# Altium footprint library Wristband-v3.PcbLib: 13 footprints
Each footprint in its own frame and in the unit in brackets; x right, y up, seen from the top. Pads: shape width x height; smd on the part's side, far side on the other; paste and mask are expansions set on the pad; w line width, h text height; cw(c..) or ccw(c..) is an arc to the next point about the centre after c.
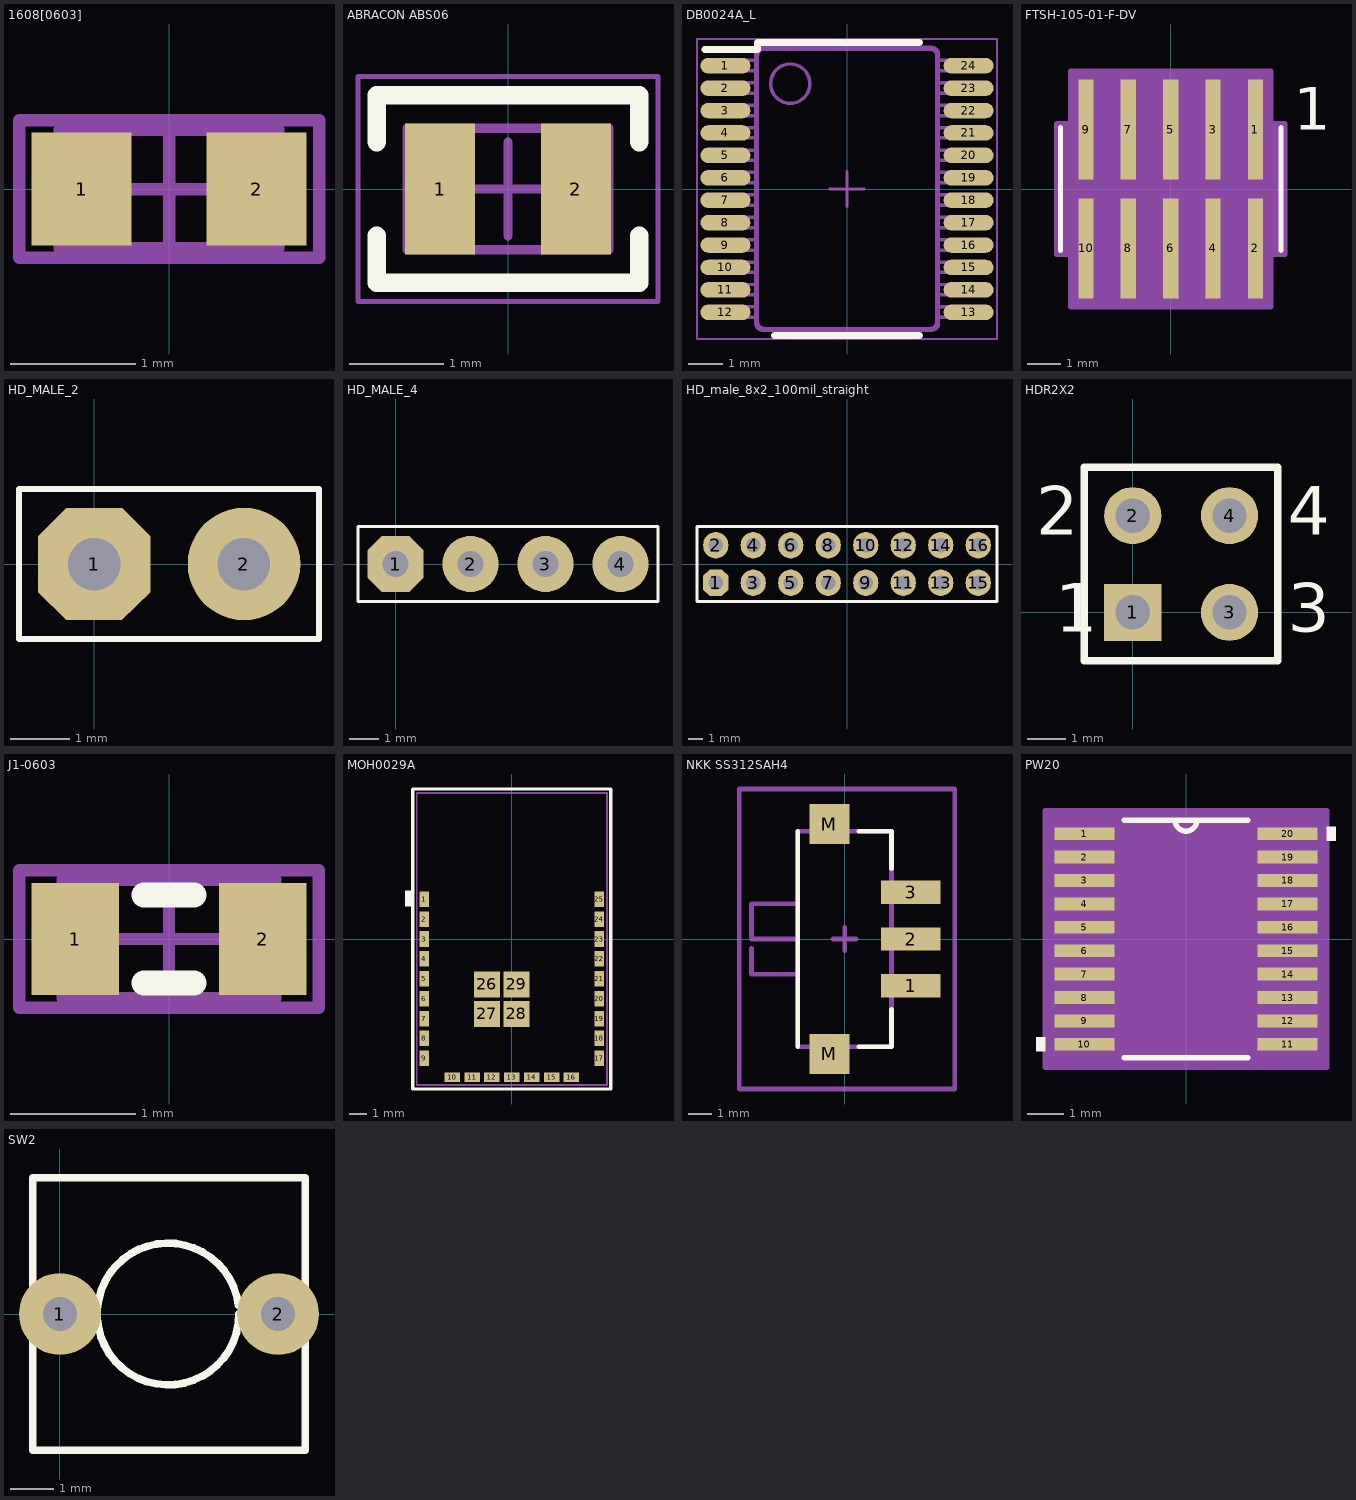
[diagram p0: the footprints below, top view; thin cyan lines are the x and y axes]

## 1608[0603] [mm] "Chip Capacitor, Body 1.6x0.8mm, IPC High Density"
height 1.3
pads (2):
  rect 0.8x0.9 smd: 1(-0.7,0) 2(0.7,0)
Mechanical 13:
  lines w0.1: -0.875,-0.475 0.875,-0.475 0.875,0.475 -0.875,0.475 -0.875,-0.475
Mechanical 15:
  lines w0.1: -0.475,0 0.475,0 ; 0,-0.475 0,0.475 ; -1.2,-0.55 1.2,-0.55 1.2,0.55 -1.2,0.55 -1.2,-0.55
3D body: height 1.3, standoff 0, extent -0.875,-0.475 0.875,0.475

## ABRACON ABS06 [mm] "Crystal, 2-Leads, Body 1.20x2.00mm, Pitch 1.50mm, IPC Medium Density"
height 0.6
pads (2):
  rect 0.75x1.4 smd: 1(-0.725,0) 2(0.725,0)
Top Overlay:
  lines w0.2: -1.4,-0.5 -1.4,-1 0,-1 1.4,-1 1.4,-0.5 ; -1.4,0.5 -1.4,1 1.4,1 1.4,0.5
Mechanical 13:
  lines w0.1: -1.075,-0.65 1.075,-0.65 1.075,0.65 -1.075,0.65 -1.075,-0.65
Mechanical 15:
  lines w0.05: -1.6,-1.2 1.6,-1.2 1.6,1.2 -1.6,1.2 -1.6,-1.2
  lines w0.1: -0.5,0 0.5,0 ; 0,-0.5 0,0.5
3D body "Abracon ABS06.STEP": height 0.6, standoff 0, extent -1.025,-0.625 1.025,0.625

## DB0024A_L [mm]
pads (24):
  oval 1.45x0.45 smd paste+0 mask+0.051: 1(-3.525,3.575) 2(-3.525,2.925) 3(-3.525,2.275) 4(-3.525,1.625) 5(-3.525,0.975) 6(-3.525,0.325) 7(-3.525,-0.325) 8(-3.525,-0.975) 9(-3.525,-1.625) 10(-3.525,-2.275) 11(-3.525,-2.925) 12(-3.525,-3.575) 13(3.525,-3.575) 14(3.525,-2.925) 15(3.525,-2.275) 16(3.525,-1.625) 17(3.525,-0.975) 18(3.525,-0.325) 19(3.525,0.325) 20(3.525,0.975) 21(3.525,1.625) 22(3.525,2.275) 23(3.525,2.925) 24(3.525,3.575)
Top Overlay:
  lines w0.2: -4.125,4.05 -2.6,4.05 -2.6,4.25 -2.1,4.25 2.1,4.25 ; -2.1,-4.25 2.1,-4.25
Mechanical 13:
  drawing of 310 lines, arcs and shapes, not listed
Mechanical 15:
  lines w0.05: -4.35,-4.35 -4.35,4.35 4.35,4.35 4.35,-4.35 -4.35,-4.35
  lines w0.1: -0.5,0 0.5,0 ; 0,-0.5 0,0.5
3D body: height 0.25, standoff 0, extent 0,0 0.254,0.254

## FTSH-105-01-F-DV [mil]
pads (10):
  rect 18x118 smd: 1(100,70) 2(100,-70) 3(50,70) 4(50,-70) 5(0,70) 6(0,-70) 7(-50,70) 8(-50,-70) 9(-100,70) 10(-100,-70)
Top Overlay:
  lines w6: -130,-72.5 -130,72.5 ; 130,-72.5 130,72.5
  text "1" at 145,70 h50
Mechanical 13:
  text "1" at 145,70 h50
Mechanical 15:
  region: 125,-67.5 -125,-67.5 -125,67.5 125,67.5
  region: -118,-77.5 -135,-77.5 -135,77.5 -118,77.5 -118,139 118,139 118,77.5 135,77.5 135,-77.5 118,-77.5 118,-139 -118,-139
  lines w6: -135,-77.5 -118,-77.5 -118,-139 118,-139 118,-77.5 135,-77.5 135,77.5 118,77.5 118,139 -118,139 -118,77.5 -135,77.5 -135,-77.5
3D body: height 10, standoff 0, extent 0,0 10,10

## HD_MALE_2 [mil]
pads (2):
  oct 75x75 hole 35: 1(0,0)
  round 75 hole 35: 2(100,0)
Top Overlay:
  lines w3.94: -50,-50 -50,50 150,50 150,-50 -50,-50
3D body "User Library-Header1x2.STEP": height 334.07, standoff -98.21, extent -50,-50 150,50

## HD_MALE_4 [mil]
pads (4):
  oct 75x75 hole 35: 1(0,0)
  round 75 hole 35: 2(100,0) 3(200,0) 4(300,0)
Top Overlay:
  lines w3.94: -50,-50 -50,50 350,50 350,-50 -50,-50
3D body "pin_header_aw140-eg-g04d.stp": height 322.83, standoff -118.11, extent -50,-50 350,48.36

## HD_male_8x2_100mil_straight [mm]
pads (16):
  oct 1.7x1.8 hole 1: 1(-8.89,-1.27)
  oval 1.7x1.8 hole 1: 2(-8.89,1.27) 3(-6.35,-1.27) 4(-6.35,1.27) 5(-3.81,-1.27) 6(-3.81,1.27) 7(-1.27,-1.27) 8(-1.27,1.27) 9(1.27,-1.27) 10(1.27,1.27) 11(3.81,-1.27) 12(3.81,1.27) 13(6.35,-1.27) 14(6.35,1.27) 15(8.89,-1.27) 16(8.89,1.27)
Top Overlay:
  lines w0.2: -10.16,-2.54 -10.16,2.54 10.16,2.54 10.16,-2.54 -10.16,-2.54
Mechanical 15 keep-out:
  lines w0.1: -10.16,-2.54 -10.16,2.54 10.16,2.54 10.16,-2.54 -10.16,-2.54
3D body: height 2, standoff 0, extent 7.62,0 10.16,2.54
3D body: height 2, standoff 0, extent 5.08,0 7.62,2.54
3D body: height 2, standoff 0, extent 2.54,0 5.08,2.54
3D body: height 2, standoff 0, extent 0,0 2.54,2.54
3D body: height 2, standoff 0, extent -2.54,0 0,2.54
3D body: height 2, standoff 0, extent -5.08,0 -2.54,2.54
3D body: height 2, standoff 0, extent -7.62,0 -5.08,2.54
3D body: height 2, standoff 0, extent 5.08,-2.54 7.62,0
3D body: height 2, standoff 0, extent 2.54,-2.54 5.08,0
3D body: height 2, standoff 0, extent 0,-2.54 2.54,0
3D body: height 2, standoff 0, extent -2.54,-2.54 0,0
3D body: height 2, standoff 0, extent -5.08,-2.54 -2.54,0
3D body: height 2, standoff 0, extent -7.62,-2.54 -5.08,0
3D body: height 2, standoff 0, extent 7.62,-2.54 10.16,0
3D body: height 2, standoff 0, extent -10.16,-2.54 -7.62,0
3D body: height 2, standoff 0, extent -10.16,0 -7.62,2.54
3D body: height 8, standoff -1, extent 8.636,1.016 9.144,1.524
3D body: height 8, standoff -1, extent 8.636,-1.524 9.144,-1.016
3D body: height 8, standoff -1, extent 6.096,1.016 6.604,1.524
3D body: height 8, standoff -1, extent 6.096,-1.524 6.604,-1.016
3D body: height 8, standoff -1, extent 3.556,1.016 4.064,1.524
3D body: height 8, standoff -1, extent 3.556,-1.524 4.064,-1.016
3D body: height 8, standoff -1, extent 1.016,1.016 1.524,1.524
3D body: height 8, standoff -1, extent 1.016,-1.524 1.524,-1.016
3D body: height 8, standoff -1, extent -1.524,1.016 -1.016,1.524
3D body: height 8, standoff -1, extent -1.524,-1.524 -1.016,-1.016
3D body: height 8, standoff -1, extent -4.064,1.016 -3.556,1.524
3D body: height 8, standoff -1, extent -4.064,-1.524 -3.556,-1.016
3D body: height 8, standoff -1, extent -6.604,1.016 -6.096,1.524
3D body: height 8, standoff -1, extent -6.604,-1.524 -6.096,-1.016
3D body: height 8, standoff -1, extent -9.144,-1.524 -8.636,-1.016
3D body: height 8, standoff -1, extent -9.144,1.016 -8.636,1.524

## HDR2X2 [mm] "Connector; Header; 2x2 Position"
pads (4):
  rect 1.5x1.5 hole 0.9: 1(0,0)
  round 1.5 hole 0.9: 2(0,2.54) 3(2.54,0) 4(2.54,2.54)
Top Overlay:
  lines w0.2: -1.27,-1.27 3.81,-1.27 3.81,3.81 -1.27,3.81 -1.27,-1.27
  text "3" at 4.064,-0.508 h1.27
  text "4" at 4.064,2.032 h1.27
  text "2" at -2.54,2.032 h1.27
  text "1" at -2.032,-0.508 h1.27

## J1-0603 [mm] "Chip Resistor, Body 1.6x0.8mm, IPC High Density"
height 0.9
pads (2):
  rect 0.7x0.9 smd: 1(-0.75,0) 2(0.75,0)
Top Overlay:
  lines w0.2: -0.2,-0.35 0.2,-0.35 ; -0.2,0.35 0.2,0.35
Mechanical 13:
  lines w0.1: -0.85,-0.475 -0.85,0.475 0.85,0.475 0.85,-0.475 -0.85,-0.475
Mechanical 15:
  lines w0.1: -0.475,0 0.475,0 ; 0,-0.475 0,0.475 ; -1.2,-0.55 -1.2,0.55 1.2,0.55 1.2,-0.55 -1.2,-0.55
3D body: height 0.9, standoff 0, extent -0.85,-0.475 0.85,0.475

## MOH0029A [mm]
pads (29):
  rect 0.55x0.9 smd paste+0 mask+0.051: 1(-5.05,2.3) 2(-5.05,1.15) 3(-5.05,0) 4(-5.05,-1.15) 5(-5.05,-2.3) 6(-5.05,-3.45) 7(-5.05,-4.6) 8(-5.05,-5.75) 9(-5.05,-6.9) 17(5.05,-6.9) 18(5.05,-5.75) 19(5.05,-4.6) 20(5.05,-3.45) 21(5.05,-2.3) 22(5.05,-1.15) 23(5.05,0) 24(5.05,1.15) 25(5.05,2.3)
  rect 0.9x0.55 smd paste+0 mask+0.051: 10(-3.45,-8) 11(-2.3,-8) 12(-1.15,-8) 13(0,-8) 14(1.15,-8) 15(2.3,-8) 16(3.45,-8)
  rect 1.5x1.5 smd paste-0.058 mask+0.051: 26(-1.435,-2.625) 27(-1.435,-4.325) 28(0.265,-4.325) 29(0.265,-2.625)
Top Overlay:
  region: -6.166,1.905 -5.766,1.905 -5.766,2.794 -6.166,2.794
  lines w0.2: -5.725,-8.675 5.725,-8.675 5.725,8.675 -5.725,8.675 -5.725,-8.675
Mechanical 13:
  lines w0.1: -5.5,-8.45 -5.5,8.45 5.5,8.45 5.5,-8.45 -5.5,-8.45
3D body: height 0.25, standoff 0, extent -0.127,-0.127 0.127,0.127

## NKK SS312SAH4 [mm]
height 2.9
pads (5):
  rect 2.55x1 smd: 1(2.824,-2) 2(2.824,0) 3(2.824,2)
  rect 1.7x1.7 smd: M(-0.65,-4.9) M(-0.65,4.9)
Top Overlay:
  lines w0.2: -2.001,-4.6 -2.001,4.6 ; 0.599,-4.6 1.999,-4.6 1.999,-3 ; 0.599,4.6 1.999,4.6 1.999,3
Mechanical 1:
  lines w0.2: -3.976,-0.4 -3.976,-1.5 -2.001,-1.5 ; -2.001,0 -3.976,0 -3.976,1.5 -2.001,1.5 ; -2.001,-4.6 -2.001,4.6 1.999,4.6 1.999,-4.6 -2.001,-4.6
Mechanical 15:
  lines w0.2: -0.5,0 0.5,0 ; 0,-0.5 0,0.5 ; -4.5,-6.4 -4.5,6.4 4.7,6.4 4.7,-6.4 -4.5,-6.4
3D body "NKK SS312SAH4.STEP": height 2.9, standoff -0.15, extent -3.976,-5.245 3.416,5.245

## PW20 [mil]
pads (20):
  rect 66x14 smd: 1(-111,115.16) 2(-111,89.57) 3(-111,63.98) 4(-111,38.39) 5(-111,12.8) 6(-111,-12.8) 7(-111,-38.39) 8(-111,-63.98) 9(-111,-89.57) 10(-111,-115.16) 11(111,-115.16) 12(111,-89.57) 13(111,-63.98) 14(111,-38.39) 15(111,-12.8) 16(111,12.8) 17(111,38.39) 18(111,63.98) 19(111,89.57) 20(111,115.16)
Top Overlay:
  region: -154,-107.66 -164,-107.66 -164,-122.66 -154,-122.66
  region: 154,122.66 164,122.66 164,107.66 154,107.66
  lines w6: -67.51,-130 67.51,-130 ; -67.51,130 67.51,130 ; -12,130 ccw(c0,130) 12,130
Mechanical 13:
  lines w0: -12,130 ccw(c0,130) 12,130
Mechanical 15:
  region: 154,-140 -154,-140 -154,140 154,140
  lines w6: -154,-140 -154,140 154,140 154,-140 -154,-140
3D body "PW20.stp": height 47.1, standoff 0, extent -130,-130 130,130

## SW2 [mil] "SW button 2pin, 250x 250 mil"
height 100
pads (2):
  round 75 hole 31: 1(0,0) 2(200,0)
Top Overlay:
  lines w7: 163.64,8.26 ccw(c99.17,0) 164.17,0 ; -25,-125 225,-125 225,125 -25,125 -25,-125